# Altium integrated library Terminal_Blocks.IntLib: 1 symbol
Pins are listed as number, name and electrical type; pins without a type are passive.

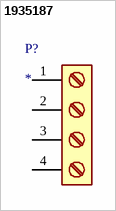
[diagram p0: symbol 1935187]

## 1935187
designator P?
Phoenix Contact 1935187, PT 1, 5/ 4-5, 0-H, PCB terminal block; Category 1: Terminal Blocks; Max Current Rating: 16A; Number of Poles: 4; Voltage Rating: 250V; Current Rating: 17.5A; Number of Levels: 1; Current: 18A; Voltage: 300V; Voltage Rating (DC): 508mV; Wire Gauge (Max): 26AWG; Wire Gauge (Min): 12AWG; Pitch: 5mm; Approvals: UL,VDE,CB,EAC; Supplier 1: Digi-Key; Supplier Part Number 1: 277-1579-ND; Manufacturer 1: Phoenix Contact; Manufacturer Part Number 1: 1935187; RoHS 1: Yes; Description 1: Phoenix Contact 1935187, PT 1, 5/ 4-5, 0-H, PCB terminal block; Stock 1: 30080; Pricing 1: 1=1.05000, 10=0.92000, 50=0.88000, 100=0.85600, 250=0.80000, 500=0.73600, 1000=0.71400 (USD); Mount: Through Hole; Number of Pins: 4; Color: Green; Weight: 0.134041oz; Material: Nylon; Housing Color: Green; Housing Material: Polyamide; Insulation Material: Nylon; Contact Material: Copper,Tin; Package Quantity: 250; Number of Rows: 1; Max Supply Voltage: 250V; Packaging: Bulk; Termination: Screw; Number of Positions Per Level: 4; Number of Contacts: 4; Number of Circuits: 4; Orientation: Straight; Number of Positions: 4; Series: COMBICON PT; Number of Ways: 4; Length: 9mm; Width: 20mm; Height: 11.3mm; Depth: 9mm; Wire/Cable Gauge: 26AWG; Stripping Length: 5mm; Radiation Hardening: No; Lead Free: Lead Free; Flammability Rating: UL94 V-0; RoHS Compliant: Yes; ComponentLink1URL: https://datasheet.ciiva.com/16047/1935187-16047251.pdf?src-supplier=Onlinecomponents.com; ComponentLink1Description: https://datasheet.ciiva.com/16047/1935187-16047251.pdf?src-supplier=Onlinecomponents.com; ComponentLink2URL: https://datasheet.ciiva.com/823/combiconcompact5-0mmseries-823770.pdf?src-supplier=Digi-Key; ComponentLink2Description: https://datasheet.ciiva.com/823/combiconcompact5-0mmseries-823770.pdf?src-supplier=Digi-Key; Supplier 2: Mouser; Supplier Part Number 2: 651-1935187; Manufacturer 2: Phoenix Contact; Manufacturer Part Number 2: 1935187; RoHS 2: Yes; Description 2: Phoenix Contact 1935187, PT 1, 5/ 4-5, 0-H, PCB terminal block; Category 2: Terminal Blocks; Stock 2: 26360; Pricing 2: 1=1.01000, 10=0.92000, 50=0.88000, 100=0.85600, 250=0.80000, 500=0.73600, 1000=0.71400, 10000=0.71400 (USD)
footprint Phoenix-Contact-1935187 (Barrier Strip Terminal Block, 17.5A, 1.5mm2, 1 Row(s), 1 Deck(s))
pins: 1, 2 g, 3 g, 4 g